# Altium schematic symbol library S8050.Schlib: 1 symbol
Pins are listed as number, name and electrical type; pins without a type are passive.

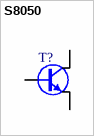
[diagram p0: symbol S8050]

## S8050
designator T?
TRANSISTORS NPN 500MA 25V SOT-23(SOT-23-3) ROHS; ComponentLink1Description: LCSC - Changjiang Electronics Tech (CJ) S8050; ComponentLink1URL: https://lcsc.com/product-detail/Transistors-NPN-PNP_Changjiang-Electronics-Tech-CJ-S8050_C2146.html/?href=jlc-SMT; LCSC Part #: C2146
footprint SOT23-3
pins: 1 B, 2 E, 3 C